# EAGLE library part DF11-20DP-2DS (library h8-conector)
Hirose Connector: DF11-20DP-2DS Right Angle Pin Header, can be used with • DF11CZ-20DS-2V, • DF11-20DS-2DSA, • DF11-20DS-2C and • DF11-20DS-2R26 Homepage : https://www.hirose.com/product/en/products/DF11/ Datasheet: https://www.hirose.com/product/en/download_file/key_name/DF11/category/Catalog/doc_file_id/31688/?file_category_id=4&item_id=37&is_series=1 Created by Hans Achterbahn (https://github.com/HansAchterbahn)
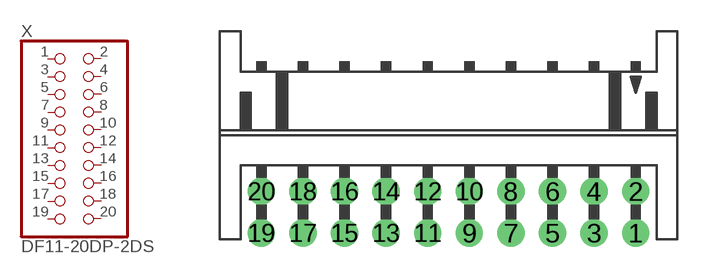
[diagram p3: symbol with the pads of DF11-20DP-2DS; footprint DF11-20DP-2DS]

Designator prefix X

## DF11-20DP-2DS (MF: Hirose; MFN: DF11-20DP-2DS; MOUSER: 798-DF11-20DP-2DS24; RS-ONLINE: 688-8954)  [DF11-20DP-2DS]
1  1  pas
2  2  pas
3  3  pas
4  4  pas
5  5  pas
6  6  pas
7  7  pas
8  8  pas
9  9  pas
10  10  pas
11  11  pas
12  12  pas
13  13  pas
14  14  pas
15  15  pas
16  16  pas
17  17  pas
18  18  pas
19  19  pas
20  20  pas

## Footprint DF11-20DP-2DS (pad centres in mm)
Hirose Connector: DF11-20DP-2DS Right Angle Pin Header, can be used with • DF11CZ-20DS-2V, • DF11-20DS-2DSA, • DF11-20DS-2C and • DF11-20DS-2R26 Homepage : https://www.hirose.com/product/en/products/DF11/ Datasheet: https://www.hirose.com/product/en/download_file/key_name/DF11/category/Catalog/doc_file_id/31688/?file_category_id=4&item_id=37&is_series=1 Created by Hans Achterbahn (https://github.com/HansAchterbahn)
drill 0.8: 1 20,-9.7; 2 20,-7.7; 3 18,-9.7; 4 18,-7.7; 5 16,-9.7; 6 16,-7.7; 7 14,-9.7; 8 14,-7.7; 9 12,-9.7; 10 12,-7.7; 11 10,-9.7; 12 10,-7.7; 13 8,-9.7; 14 8,-7.7; 15 6,-9.7; 16 6,-7.7; 17 4,-9.7; 18 4,-7.7; 19 2,-9.7; 20 2,-7.7